# Altium schematic symbol library TC442x.SchLib: 6 symbols
Pins are listed as number, name and electrical type; pins without a type are passive.

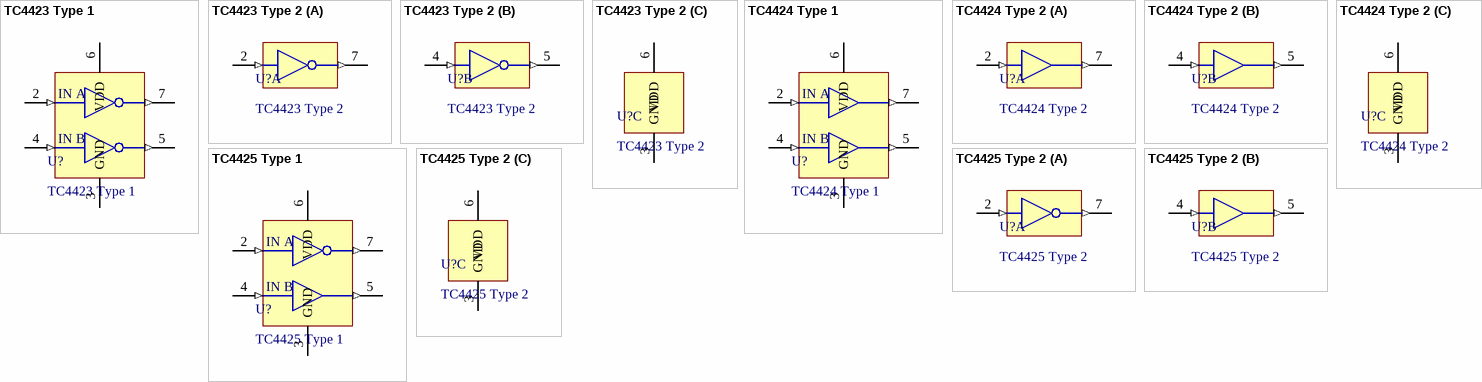
[diagram p0: symbols TC4423 Type 1 to TC4425 Type 2]

## TC4423 Type 1
designator U?
3A Dual High-Speed Power MOSFET Drivers
footprint PDIP8
pins: 2 INA (in), 3 GND (power), 4 IN B (in), 5 OUT B (out), 6 VDD (power), 7 OUT A (out)
text: IN A

## TC4423 Type 2
designator U?
3A Dual High-Speed Power MOSFET Drivers
footprint PDIP8
part A pins: 2 INA (in), 7 OUT A (out)
part B pins: 4 IN B (in), 5 OUT B (out)
part C pins: 3 GND (power), 6 VDD (power)

## TC4424 Type 1
designator U?
3A Dual High-Speed Power MOSFET Drivers
footprint PDIP8
pins: 2 INA (in), 3 GND (power), 4 IN B (in), 5 OUT B (out), 6 VDD (power), 7 OUT A (out)
text: IN A

## TC4424 Type 2
designator U?
3A Dual High-Speed Power MOSFET Drivers
footprint PDIP8
part A pins: 2 INA (in), 7 OUT A (out)
part B pins: 4 IN B (in), 5 OUT B (out)
part C pins: 3 GND (power), 6 VDD (power)

## TC4425 Type 1
designator U?
3A Dual High-Speed Power MOSFET Drivers
footprint PDIP8
pins: 2 INA (in), 3 GND (power), 4 IN B (in), 5 OUT B (out), 6 VDD (power), 7 OUT A (out)
text: IN A

## TC4425 Type 2
designator U?
3A Dual High-Speed Power MOSFET Drivers
footprint PDIP8
part A pins: 2 INA (in), 7 OUT A (out)
part B pins: 4 IN B (in), 5 OUT B (out)
part C pins: 3 GND (power), 6 VDD (power)